# EAGLE library part AT91SAM7X (library ARM micom_MORISHITA)
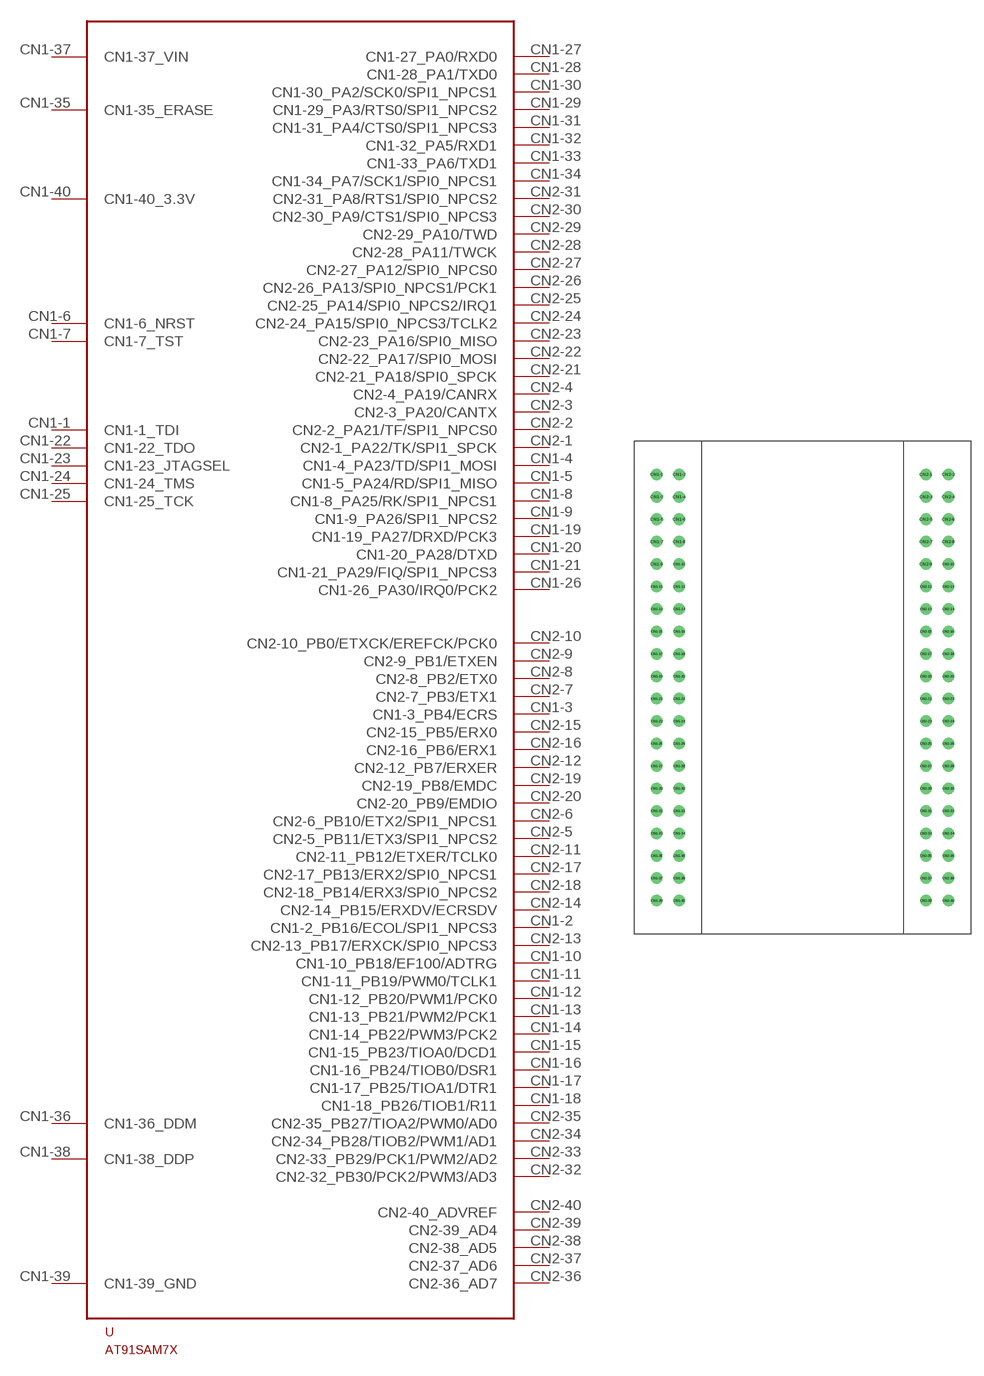
[diagram p0: symbol with the pads of AT91SAM7X_BESTTECH; footprint AT91SAM7X_BESTTECH]

Designator prefix U

## AT91SAM7XBESTTECH  [AT91SAM7X_BESTTECH]
CN1-1  CN1-1_TDI
CN1-2  CN1-2_PB16/ECOL/SPI1_NPCS3
CN1-3  CN1-3_PB4/ECRS
CN1-4  CN1-4_PA23/TD/SPI1_MOSI
CN1-5  CN1-5_PA24/RD/SPI1_MISO
CN1-6  CN1-6_NRST
CN1-7  CN1-7_TST
CN1-8  CN1-8_PA25/RK/SPI1_NPCS1
CN1-9  CN1-9_PA26/SPI1_NPCS2
CN1-10  CN1-10_PB18/EF100/ADTRG
CN1-11  CN1-11_PB19/PWM0/TCLK1
CN1-12  CN1-12_PB20/PWM1/PCK0
CN1-13  CN1-13_PB21/PWM2/PCK1
CN1-14  CN1-14_PB22/PWM3/PCK2
CN1-15  CN1-15_PB23/TIOA0/DCD1
CN1-16  CN1-16_PB24/TIOB0/DSR1
CN1-17  CN1-17_PB25/TIOA1/DTR1
CN1-18  CN1-18_PB26/TIOB1/R11
CN1-19  CN1-19_PA27/DRXD/PCK3
CN1-20  CN1-20_PA28/DTXD
CN1-21  CN1-21_PA29/FIQ/SPI1_NPCS3
CN1-22  CN1-22_TDO
CN1-23  CN1-23_JTAGSEL
CN1-24  CN1-24_TMS
CN1-25  CN1-25_TCK
CN1-26  CN1-26_PA30/IRQ0/PCK2
CN1-27  CN1-27_PA0/RXD0
CN1-28  CN1-28_PA1/TXD0
CN1-29  CN1-29_PA3/RTS0/SPI1_NPCS2
CN1-30  CN1-30_PA2/SCK0/SPI1_NPCS1
CN1-31  CN1-31_PA4/CTS0/SPI1_NPCS3
CN1-32  CN1-32_PA5/RXD1
CN1-33  CN1-33_PA6/TXD1
CN1-34  CN1-34_PA7/SCK1/SPI0_NPCS1
CN1-35  CN1-35_ERASE
CN1-36  CN1-36_DDM
CN1-37  CN1-37_VIN  pwr
CN1-38  CN1-38_DDP
CN1-39  CN1-39_GND  pwr
CN1-40  CN1-40_3.3V  pwr
CN2-1  CN2-1_PA22/TK/SPI1_SPCK
CN2-2  CN2-2_PA21/TF/SPI1_NPCS0
CN2-3  CN2-3_PA20/CANTX
CN2-4  CN2-4_PA19/CANRX
CN2-5  CN2-5_PB11/ETX3/SPI1_NPCS2
CN2-6  CN2-6_PB10/ETX2/SPI1_NPCS1
CN2-7  CN2-7_PB3/ETX1
CN2-8  CN2-8_PB2/ETX0
CN2-9  CN2-9_PB1/ETXEN
CN2-10  CN2-10_PB0/ETXCK/EREFCK/PCK0
CN2-11  CN2-11_PB12/ETXER/TCLK0
CN2-12  CN2-12_PB7/ERXER
CN2-13  CN2-13_PB17/ERXCK/SPI0_NPCS3
CN2-14  CN2-14_PB15/ERXDV/ECRSDV
CN2-15  CN2-15_PB5/ERX0
CN2-16  CN2-16_PB6/ERX1
CN2-17  CN2-17_PB13/ERX2/SPI0_NPCS1
CN2-18  CN2-18_PB14/ERX3/SPI0_NPCS2
CN2-19  CN2-19_PB8/EMDC
CN2-20  CN2-20_PB9/EMDIO
CN2-21  CN2-21_PA18/SPI0_SPCK
CN2-22  CN2-22_PA17/SPI0_MOSI
CN2-23  CN2-23_PA16/SPI0_MISO
CN2-24  CN2-24_PA15/SPI0_NPCS3/TCLK2
CN2-25  CN2-25_PA14/SPI0_NPCS2/IRQ1
CN2-26  CN2-26_PA13/SPI0_NPCS1/PCK1
CN2-27  CN2-27_PA12/SPI0_NPCS0
CN2-28  CN2-28_PA11/TWCK
CN2-29  CN2-29_PA10/TWD
CN2-30  CN2-30_PA9/CTS1/SPI0_NPCS3
CN2-31  CN2-31_PA8/RTS1/SPI0_NPCS2
CN2-32  CN2-32_PB30/PCK2/PWM3/AD3
CN2-33  CN2-33_PB29/PCK1/PWM2/AD2
CN2-34  CN2-34_PB28/TIOB2/PWM1/AD1
CN2-35  CN2-35_PB27/TIOA2/PWM0/AD0
CN2-36  CN2-36_AD7
CN2-37  CN2-37_AD6
CN2-38  CN2-38_AD5
CN2-39  CN2-39_AD4
CN2-40  CN2-40_ADVREF

## Footprint AT91SAM7X_BESTTECH (pad centres in mm)
AT91SAM7X Best Technology micom board ARM7 micom series. producted by ATMEL.Co
drill 0.8 round: CN1-1 -16.51,24.13; CN1-2 -13.97,24.13; CN1-3 -16.51,21.59; CN1-4 -13.97,21.59; CN1-5 -16.51,19.05; CN1-6 -13.97,19.05; CN1-7 -16.51,16.51; CN1-8 -13.97,16.51; CN1-9 -16.51,13.97; CN1-10 -13.97,13.97; CN1-11 -16.51,11.43; CN1-12 -13.97,11.43; CN1-13 -16.51,8.89; CN1-14 -13.97,8.89; CN1-15 -16.51,6.35; CN1-16 -13.97,6.35; CN1-17 -16.51,3.81; CN1-18 -13.97,3.81; CN1-19 -16.51,1.27; CN1-20 -13.97,1.27; CN1-21 -16.51,-1.27; CN1-22 -13.97,-1.27; CN1-23 -16.51,-3.81; CN1-24 -13.97,-3.81; CN1-25 -16.51,-6.35; CN1-26 -13.97,-6.35; CN1-27 -16.51,-8.89; CN1-28 -13.97,-8.89; CN1-29 -16.51,-11.43; CN1-30 -13.97,-11.43; CN1-31 -16.51,-13.97; CN1-32 -13.97,-13.97; CN1-33 -16.51,-16.51; CN1-34 -13.97,-16.51; CN1-35 -16.51,-19.05; CN1-36 -13.97,-19.05; CN1-37 -16.51,-21.59; CN1-38 -13.97,-21.59; CN1-39 -16.51,-24.13; CN1-40 -13.97,-24.13; CN2-1 13.97,24.13; CN2-2 16.51,24.13; CN2-3 13.97,21.59; CN2-4 16.51,21.59; CN2-5 13.97,19.05; CN2-6 16.51,19.05; CN2-7 13.97,16.51; CN2-8 16.51,16.51; CN2-9 13.97,13.97; CN2-10 16.51,13.97; CN2-11 13.97,11.43; CN2-12 16.51,11.43; CN2-13 13.97,8.89; CN2-14 16.51,8.89; CN2-15 13.97,6.35; CN2-16 16.51,6.35; CN2-17 13.97,3.81; CN2-18 16.51,3.81; CN2-19 13.97,1.27; CN2-20 16.51,1.27; CN2-21 13.97,-1.27; CN2-22 16.51,-1.27; CN2-23 13.97,-3.81; CN2-24 16.51,-3.81; CN2-25 13.97,-6.35; CN2-26 16.51,-6.35; CN2-27 13.97,-8.89; CN2-28 16.51,-8.89; CN2-29 13.97,-11.43; CN2-30 16.51,-11.43; CN2-31 13.97,-13.97; CN2-32 16.51,-13.97; CN2-33 13.97,-16.51; CN2-34 16.51,-16.51; CN2-35 13.97,-19.05; CN2-36 16.51,-19.05; CN2-37 13.97,-21.59; CN2-38 16.51,-21.59; CN2-39 13.97,-24.13; CN2-40 16.51,-24.13